# Altium schematic symbol library FM-160LCD.SchLib: 2 symbols
Pins are listed as number, name and electrical type; pins without a type are passive.

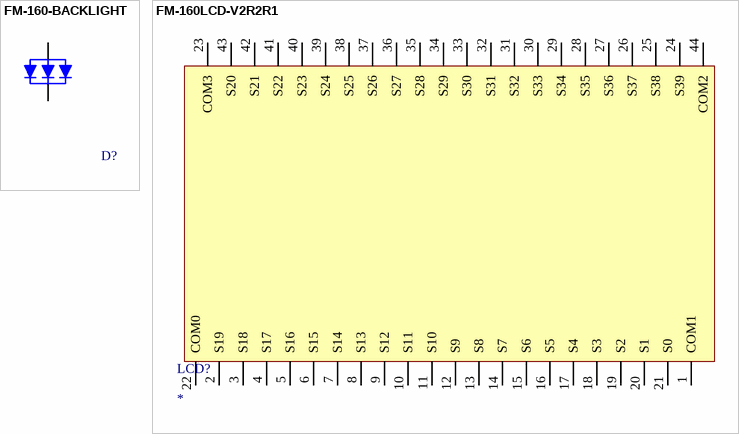
[diagram p0: symbols FM-160-BACKLIGHT to FM-160LCD-V2R2R1]

## FM-160-BACKLIGHT
designator D?, comment BACKLIGHT  (value not drawn)  (no BOM)
IF=45mA;VF=3V; Manufacturer: FLOWMEET; Manufacturer Part Number: FM-160-BACKLIGHT; Category: Backlight; ComponentLink1Description: Datasheet; ComponentLink1URL: *
footprint BACKLIGHT
pins: 1, 2 0

## FM-160LCD-V2R2R1
designator LCD?
Manufacturer: FLOWMEET; Manufacturer Part Number: FM-160LCD-V2R2R1; Category: LCD; ComponentLink1Description: Datasheet; ComponentLink1URL: *
footprint FMC-160LCD V2
pins: 1 COM1, 2 S19, 3 S18, 4 S17, 5 S16, 6 S15, 7 S14, 8 S13, 9 S12, 10 S11, 11 S10, 12 S9, 13 S8, 14 S7, 15 S6, 16 S5, 17 S4, 18 S3, 19 S2, 20 S1, 21 S0, 22 COM0, 23 COM3, 24 S39, 25 S38, 26 S37, 27 S36, 28 S35, 29 S34, 30 S33, 31 S32, 32 S31, 33 S30, 34 S29, 35 S28, 36 S27, 37 S26, 38 S25, 39 S24, 40 S23, 41 S22, 42 S21, 43 S20, 44 COM2